# Altium footprint library gini_base_pcb.PCBLIB: 175 footprints (part 5 of 11)
Each footprint in its own frame and in the unit in brackets; x right, y up, seen from the top. Pads: shape width x height; smd on the part's side, far side on the other; paste and mask are expansions set on the pad; w line width, h text height; cw(c..) or ccw(c..) is an arc to the next point about the centre after c.
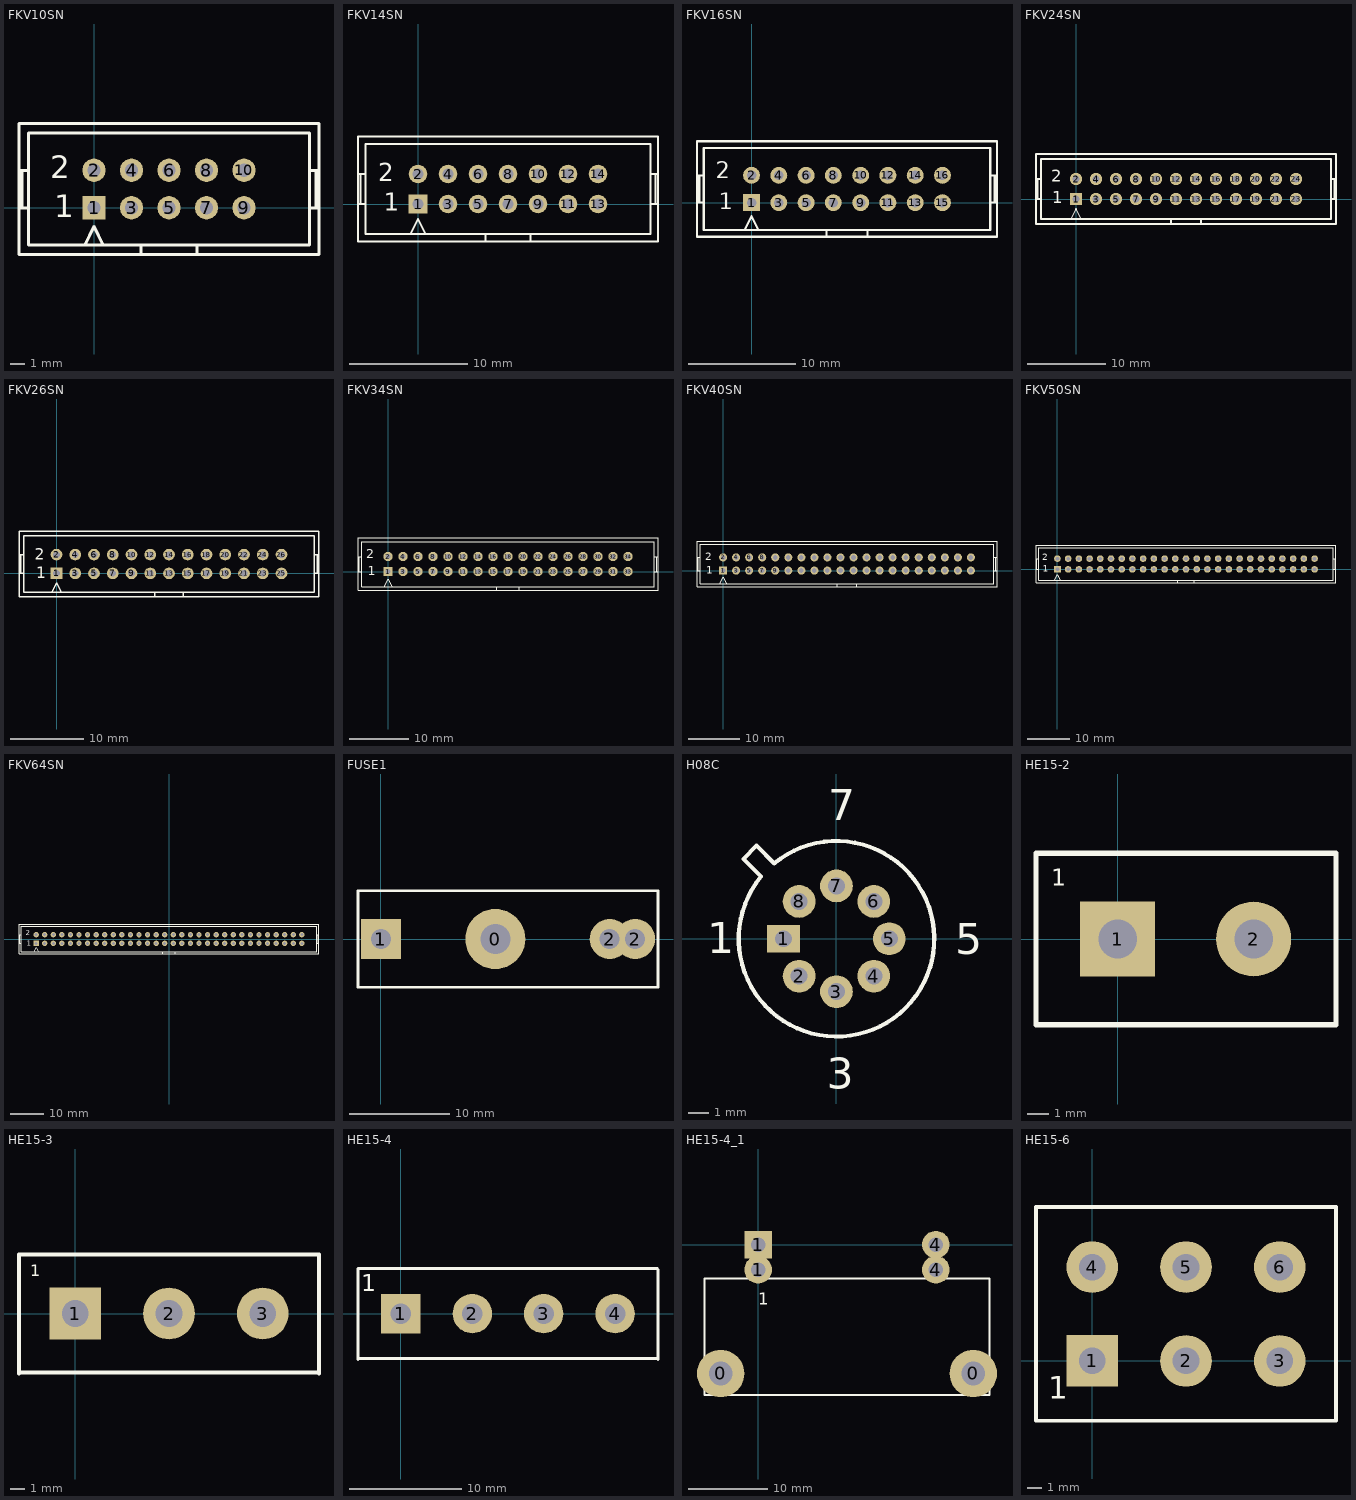
[diagram p4: the footprints below, top view; thin cyan lines are the x and y axes]

## FKV10SN [mil]
pads (10):
  rect 62x62 hole 35: 1(0,0)
  round 62 hole 35: 2(0,100) 3(100,0) 4(100,100) 5(200,0) 6(200,100) 7(300,0) 8(300,100) 9(400,0) 10(400,100)
TopOverlay:
  lines w8: -200,0 -175,0 ; -200,100 -175,100 ; -191.67,0 -191.67,100 ; -25,-100 0,-50 25,-100 ; 125,-125 125,-100 ; 275,-125 275,-100 ; 575,0 600,0 ; 575,100 600,100 ; 591.67,0 591.67,100 ; 125,-100 -175,-100 -175,200 575,200 575,-100 275,-100 ; 125,-100 275,-100 ; -200,-125 -200,225 600,225 600,-125 -200,-125
  text "2" at -117,79 h60
  text "1" at -106,-26 h60

## FKV14SN [mil]
pads (14):
  rect 62x62 hole 35.43: 1(0,0)
  round 62 hole 35.43: 2(0,100) 3(100,0) 4(100,100) 5(200,0) 6(200,100) 7(300,0) 8(300,100) 9(400,0) 10(400,100) 11(500,0) 12(500,100) 13(600,0) 14(600,100)
TopOverlay:
  lines w8: -200,0 -175,0 ; -200,100 -175,100 ; -191.67,0 -191.67,100 ; -25,-100 0,-50 25,-100 ; 225,-125 225,-100 ; 375,-125 375,-100 ; 775,0 800,0 ; 775,100 800,100 ; 791.67,0 791.67,100 ; 225,-100 375,-100 ; 225,-100 -175,-100 -175,200 775,200 775,-100 375,-100 ; -200,-125 800,-125 800,225 -200,225 -200,-125
  text "2" at -132,76 h60
  text "1" at -115,-23 h60

## FKV16SN [mil]
pads (16):
  rect 62x62 hole 35: 1(0,0)
  round 62 hole 35: 2(0,100) 3(100,0) 4(100,100) 5(200,0) 6(200,100) 7(300,0) 8(300,100) 9(400,0) 10(400,100) 11(500,0) 12(500,100) 13(600,0) 14(600,100) 15(700,0) 16(700,100)
TopOverlay:
  lines w8: -200,0 -175,0 ; -200,100 -175,100 ; -191.67,0 -191.67,100 ; -25,-100 0,-50 25,-100 ; 275,-125 275,-100 ; 425,-125 425,-100 ; 875,0 900,0 ; 875,100 900,100 ; 891.67,0 891.67,8.33 891.67,100 ; 275,-100 -175,-100 -175,200 875,200 875,-100 425,-100 ; 275,-100 425,-100 ; -200,-125 -200,225 900,225 900,-125 -200,-125
  text "2" at -132,89 h60
  text "1" at -120,-24 h60

## FKV24SN [mil]
pads (24):
  rect 62x62 hole 35: 1(0,0)
  round 62 hole 35: 2(0,100) 3(100,0) 4(100,100) 5(200,0) 6(200,100) 7(300,0) 8(300,100) 9(400,0) 10(400,100) 11(500,0) 12(500,100) 13(600,0) 14(600,100) 15(700,0) 16(700,100) 17(800,0) 18(800,100) 19(900,0) 20(900,100) 21(1000,0) 22(1000,100) 23(1100,0) 24(1100,100)
TopOverlay:
  lines w8: -200,0 -175,0 ; -200,100 -175,100 ; -191.67,0 -191.67,100 ; -25,-100 0,-50 25,-100 ; 475,-125 475,-100 ; 625,-125 625,-100 ; 1275,0 1300,0 ; 1275,100 1300,100 ; 1291.67,0 1291.67,100 ; 475,-100 625,-100 ; 475,-100 -175,-100 -175,200 1275,200 1275,-100 625,-100 ; -200,-125 1300,-125 1300,225 -200,225 -200,-125
  text "1" at -118,-20 h60
  text "2" at -124,86 h60

## FKV26SN [mil]
pads (26):
  rect 62x62 hole 35: 1(0,0)
  round 62 hole 35: 2(0,100) 3(100,0) 4(100,100) 5(200,0) 6(200,100) 7(300,0) 8(300,100) 9(400,0) 10(400,100) 11(500,0) 12(500,100) 13(600,0) 14(600,100) 15(700,0) 16(700,100) 17(800,0) 18(800,100) 19(900,0) 20(900,100) 21(1000,0) 22(1000,100) 23(1100,0) 24(1100,100) 25(1200,0) 26(1200,100)
TopOverlay:
  lines w8: -200,0 -175,0 ; -200,100 -175,100 ; -191.67,0 -191.67,100 ; -25,-100 0,-50 25,-100 ; 525,-125 525,-100 ; 675,-125 675,-100 ; 1375,0 1400,0 ; 1375,100 1400,100 ; 1391.67,0 1391.67,100 ; 525,-100 675,-100 ; 525,-100 -175,-100 -175,200 1375,200 1375,-100 675,-100 ; -200,-125 1400,-125 1400,225 -200,225 -200,-125
  text "2" at -117,74 h60
  text "1" at -107,-26 h60

## FKV34SN [mil]
pads (34):
  rect 62x62 hole 35: 1(0,0)
  round 62 hole 35: 2(0,100) 3(100,0) 4(100,100) 5(200,0) 6(200,100) 7(300,0) 8(300,100) 9(400,0) 10(400,100) 11(500,0) 12(500,100) 13(600,0) 14(600,100) 15(700,0) 16(700,100) 17(800,0) 18(800,100) 19(900,0) 20(900,100) 21(1000,0) 22(1000,100) 23(1100,0) 24(1100,100) 25(1200,0) 26(1200,100) 27(1300,0) 28(1300,100) 29(1400,0) 30(1400,100) 31(1500,0) 32(1500,100) 33(1600,0) 34(1600,100)
TopOverlay:
  lines w8: -200,0 -175,0 ; -200,100 -175,100 ; -191.67,0 -191.67,100 ; -25,-100 0,-50 25,-100 ; 725,-125 725,-100 ; 875,-125 875,-100 ; 1775,0 1800,0 ; 1775,100 1800,100 ; 1791.67,0 1791.67,100 ; 725,-100 -175,-100 -175,200 1775,200 1775,-100 875,-100 ; 725,-100 875,-100 ; -200,-125 -200,225 1800,225 1800,-125 -200,-125
  text "2" at -145,87 h60
  text "1" at -134,-24 h60

## FKV40SN [mil]
pads (40):
  rect 62x62 hole 35: 1(0,0)
  round 62 hole 35: 2(0,100) 3(100,0) 4(100,100) 5(200,0) 6(200,100) 7(300,0) 8(300,100) 9(400,0) 10(400,100) 11(500,0) 12(500,100) 13(600,0) 14(600,100) 15(700,0) 16(700,100) 17(800,0) 18(800,100) 19(900,0) 20(900,100) 21(1000,0) 22(1000,100) 23(1100,0) 24(1100,100) 25(1200,0) 26(1200,100) 27(1300,0) 28(1300,100) 29(1400,0) 30(1400,100) 31(1500,0) 32(1500,100) 33(1600,0) 34(1600,100) 35(1700,0) 36(1700,100) 37(1800,0) 38(1800,100) 39(1900,0) 40(1900,100)
TopOverlay:
  lines w8: -200,0 -175,0 ; -200,100 -175,100 ; -191.67,0 -191.67,100 ; -25,-100 0,-50 25,-100 ; 875,-125 875,-100 ; 1025,-125 1025,-100 ; 2075,0 2100,0 ; 2075,100 2100,100 ; 2091.67,0 2091.67,100 ; 875,-100 -175,-100 -175,200 2075,200 2075,-100 1025,-100 ; 875,-100 1025,-100 ; -200,-125 -200,225 2100,225 2100,-125 -200,-125
  text "1" at -128,-25 h60
  text "2" at -137,79 h60

## FKV50SN [mil]
pads (50):
  rect 62x62 hole 35: 1(0,0)
  round 62 hole 35: 2(0,100) 3(100,0) 4(100,100) 5(200,0) 6(200,100) 7(300,0) 8(300,100) 9(400,0) 10(400,100) 11(500,0) 12(500,100) 13(600,0) 14(600,100) 15(700,0) 16(700,100) 17(800,0) 18(800,100) 19(900,0) 20(900,100) 21(1000,0) 22(1000,100) 23(1100,0) 24(1100,100) 25(1200,0) 26(1200,100) 27(1300,0) 28(1300,100) 29(1400,0) 30(1400,100) 31(1500,0) 32(1500,100) 33(1600,0) 34(1600,100) 35(1700,0) 36(1700,100) 37(1800,0) 38(1800,100) 39(1900,0) 40(1900,100) 41(2000,0) 42(2000,100) 43(2100,0) 44(2100,100) 45(2200,0) 46(2200,100) 47(2300,0) 48(2300,100) 49(2400,0) 50(2400,100)
TopOverlay:
  lines w8: -200,0 -175,0 ; -200,100 -175,100 ; -191.67,0 -191.67,100 ; -25,-100 0,-50 25,-100 ; 1125,-125 1125,-100 ; 1275,-125 1275,-100 ; 2575,0 2600,0 ; 2575,100 2600,100 ; 2591.67,0 2591.67,100 ; 1125,-100 1275,-100 ; 1125,-100 -175,-100 -175,200 2575,200 2575,-100 1275,-100 ; -200,-125 2600,-125 2600,225 -200,225 -200,-125
  text "2" at -143,84 h60
  text "1" at -135,-21 h60

## FKV64SN [mil]
pads (64):
  rect 62x62 hole 35: 1(-1550,-50)
  round 62 hole 35: 2(-1550,50) 3(-1450,-50) 4(-1450,50) 5(-1350,-50) 6(-1350,50) 7(-1250,-50) 8(-1250,50) 9(-1150,-50) 10(-1150,50) 11(-1050,-50) 12(-1050,50) 13(-950,-50) 14(-950,50) 15(-850,-50) 16(-850,50) 17(-750,-50) 18(-750,50) 19(-650,-50) 20(-650,50) 21(-550,-50) 22(-550,50) 23(-450,-50) 24(-450,50) 25(-350,-50) 26(-350,50) 27(-250,-50) 28(-250,50) 29(-150,-50) 30(-150,50) 31(-50,-50) 32(-50,50) 33(50,-50) 34(50,50) 35(150,-50) 36(150,50) 37(250,-50) 38(250,50) 39(350,-50) 40(350,50) 41(450,-50) 42(450,50) 43(550,-50) 44(550,50) 45(650,-50) 46(650,50) 47(750,-50) 48(750,50) 49(850,-50) 50(850,50) 51(950,-50) 52(950,50) 53(1050,-50) 54(1050,50) 55(1150,-50) 56(1150,50) 57(1250,-50) 58(1250,50) 59(1350,-50) 60(1350,50) 61(1450,-50) 62(1450,50) 63(1550,-50) 64(1550,50)
TopOverlay:
  lines w8: -1750,-50 -1725,-50 ; -1750,50 -1725,50 ; -1741.67,-50 -1741.67,50 ; -1575,-150 -1550,-100 -1525,-150 ; -75,-175 -75,-150 ; 75,-175 75,-150 ; 1725,-50 1750,-50 ; 1725,50 1750,50 ; 1741.67,-50 1741.67,50 ; -75,-150 75,-150 ; -75,-150 -1725,-150 -1725,150 1725,150 1725,-150 75,-150 ; -1750,-175 1750,-175 1750,175 -1750,175 -1750,-175
  text "2" at -1669,41 h60
  text "1" at -1660,-76 h60

## FUSE1 [mm]
pads (4):
  round 6 hole 3: 0(11.43,0)
  rect 4x4 hole 2: 1(0,0)
  round 4 hole 2: 2(22.86,0) 2(25.4,0)
TopOverlay:
  lines w0.254: -2.286,-4.826 27.686,-4.826 27.686,4.826 -2.286,4.826 -2.286,-4.826

## H08C [mil] "Can; 8 Leads; Pin Circle Dia. 5.08 mm; Lead Dia. 0.48 mm (max)"
height 185.04
pads (8):
  rect 62x52 hole 32: 1(-100,0)
  round 62 hole 32: 2(-70.71,-70.71) 3(0,-100) 4(70.71,-70.71) 5(100,0) 6(70.71,70.71) 7(0,100) 8(-70.71,70.71)
TopOverlay:
  lines w7.87: -176.18,151.12 -142.77,117.71 ccw(c0,0) -117.71,142.77 -151.12,176.18 -176.18,151.12
  text "7" at -15.63,224.41 h59.05
  text "5" at 224.92,-29.57 h59.05
  text "3" at -18.46,-284.25 h59.05
  text "1" at -244.13,-27.44 h59.05

## HE15-2 [mm]
pads (2):
  rect 3.5x3.5 hole 1.8: 1(0,0)
  round 3.5 hole 1.8: 2(6.35,0)
TopOverlay:
  lines w0.254: -3.81,-4 10.19,-4 10.19,4 -3.81,4 -3.81,-4
  text "1" at -3.099,2.489 h0.8

## HE15-3 [mm]
pads (3):
  rect 3.5x3.5 hole 1.8: 1(0,0)
  round 3.5 hole 1.8: 2(6.35,0) 3(12.7,0)
TopOverlay:
  lines w0.254: -3.81,-4.064 -3.81,3.936 ; -3.81,-4 16.51,-4 ; -3.81,4 16.51,4 ; 16.51,-4.064 16.51,3.936
  text "1" at -3.048,2.54 h0.8
3D body: height 14.8, standoff -4.8, extent -6.15,-5.4 19.15,4

## HE15-4 [mm]
pads (4):
  rect 3.5x3.5 hole 1.8: 1(0,0)
  round 3.5 hole 1.8: 2(6.35,0) 3(12.7,0) 4(19.05,0)
TopOverlay:
  lines w0.254: -3.81,-4.064 -3.81,3.936 ; -3.81,-4 16.51,-4 22.796,-4 ; -3.81,4 16.51,4 22.796,4 ; 22.86,-4.064 22.86,3.936
  text "1" at -3.5,2 h1.52

## HE15-4_1 [mm]
pads (6):
  round 6 hole 3: 0(-4.75,-16.307) 0(27.229,-16.307)
  round 3.5 hole 1.8: 1(0,-3.175) 4(22.479,-3.175) 4(22.479,0)
  rect 3.5x3.5 hole 1.8: 1(0,0)
TopOverlay:
  lines w0.254: -6.794,-19.05 29.273,-19.05 29.273,-4.293 -6.794,-4.293 -6.794,-19.05
  text "1" at 0,-7.62 h1.52

## HE15-6 [mm]
pads (6):
  rect 3.5x3.5 hole 1.8: 1(0,0)
  round 3.5 hole 1.8: 2(6.35,0) 3(12.7,0) 4(0,6.35) 5(6.35,6.35) 6(12.7,6.35)
TopOverlay:
  lines w0.254: -3.81,-4.064 16.51,-4.064 ; -3.81,-3.936 -3.81,4.064 -3.81,10.414 16.51,10.414 16.51,4.064 16.51,-3.936
  text "1" at -2.992,-2.572 h1.52